# Altium footprint library DIOM - DIOdeMolded.PcbLib: 8 footprints
Each footprint in its own frame and in the unit in brackets; x right, y up, seen from the top. Pads: shape width x height; smd on the part's side, far side on the other; paste and mask are expansions set on the pad; w line width, h text height; cw(c..) or ccw(c..) is an arc to the next point about the centre after c.
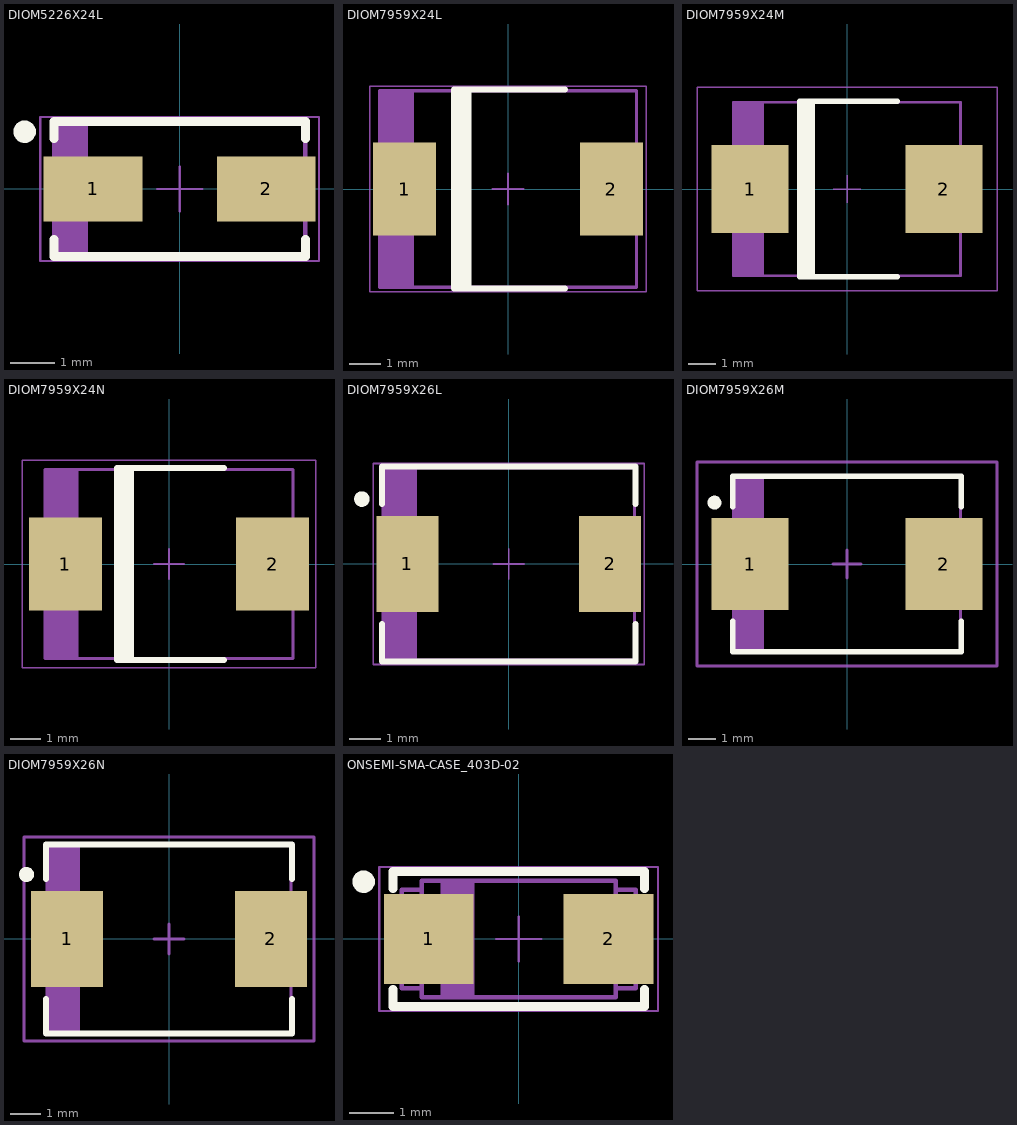
[diagram p0: the footprints below, top view; thin cyan lines are the x and y axes]

## DIOM5226X24L [mm] "Molded Diode, 2-Leads, Body 5.2x2.6mm, IPC High Density, Jedec DO-214AC, SMA"
height 2.41
pads (2):
  rect 2.2x1.45 smd: 1(-1.925,0) 2(1.925,0)
Top Overlay:
  circle w0.25: c-3.45,1.275 r0.125
  lines w0.2: -2.8,-1.125 -2.8,-1.5 2.8,-1.5 2.8,-1.125 ; -2.8,1.125 -2.8,1.5 2.8,1.5 2.8,1.125
TopBody:
  rectangle: -2.795,-1.46 -2.043,1.46
  lines w0.1: -2.795,-1.46 -2.795,1.46 2.795,1.46 2.795,-1.46 -2.795,-1.46
TopCourtyard:
  lines w0.05: -0.5,0 0,0 ; 0,-0.5 0,0 ; 0,0.5 0,0 ; 0.5,0 0,0 ; -3.1,-1.6 -3.1,1.6 3.1,1.6 3.1,-1.6 -3.1,-1.6
3D body: height 2.41, standoff 0, extent -2.795,-1.46 2.795,1.46

## DIOM7959X24L [mm] "Molded Diode, 2-Leads, Body 7.9x5.9mm, IPC High Density, Jedec DO-214AB, SMC"
height 2.41
pads (2):
  rect 2x2.95 smd: 1(-3.275,0) 2(3.275,0)
Top Overlay:
  rectangle: -1.7,-3.05 -1.15,3.05
  lines w0.2: 1.8,-3.15 -1.7,-3.15 -1.7,3.15 1.8,3.15
TopBody:
  rectangle: -4.065,-3.11 -2.972,3.11
  lines w0.1: -4.065,-3.11 -4.065,3.11 4.065,3.11 4.065,-3.11 -4.065,-3.11
TopCourtyard:
  lines w0.05: -0.5,0 0,0 ; 0,-0.5 0,0 ; 0,0.5 0,0 ; 0.5,0 0,0 ; -4.375,-3.25 -4.375,3.25 4.375,3.25 4.375,-3.25 -4.375,-3.25
3D body: height 2.41, standoff 0, extent -4.065,-3.11 4.065,3.11

## DIOM7959X24M [mm] "Molded Diode, 2-Leads, Body 7.9x5.9mm, IPC Low Density, Jedec DO-214AB, SMC"
height 2.41
pads (2):
  rect 2.75x3.15 smd: 1(-3.475,0) 2(3.475,0)
Top Overlay:
  rectangle: -1.7,-3.05 -1.15,3.05
  lines w0.2: 1.8,-3.15 -1.7,-3.15 -1.7,3.15 1.8,3.15
TopBody:
  rectangle: -4.065,-3.11 -2.972,3.11
  lines w0.1: -4.065,-3.11 -4.065,3.11 4.065,3.11 4.065,-3.11 -4.065,-3.11
TopCourtyard:
  lines w0.05: -0.5,0 0,0 ; 0,-0.5 0,0 ; 0,0.5 0,0 ; 0.5,0 0,0 ; -5.375,-3.65 -5.375,3.65 5.375,3.65 5.375,-3.65 -5.375,-3.65
3D body: height 2.41, standoff 0, extent -4.065,-3.11 4.065,3.11

## DIOM7959X24N [mm] "Molded Diode, 2-Leads, Body 7.9x5.9mm, IPC Medium Density, Jedec DO-214AB, SMC"
height 2.41
pads (2):
  rect 2.4x3.05 smd: 1(-3.4,0) 2(3.4,0)
Top Overlay:
  rectangle: -1.7,-3.05 -1.15,3.05
  lines w0.2: 1.8,-3.15 -1.7,-3.15 -1.7,3.15 1.8,3.15
TopBody:
  rectangle: -4.065,-3.11 -2.972,3.11
  lines w0.1: -4.065,-3.11 4.065,-3.11 4.065,3.11 -4.065,3.11 -4.065,-3.11
TopCourtyard:
  lines w0.05: -0.5,0 0,0 ; 0,-0.5 0,0 ; 0,0.5 0,0 ; 0.5,0 0,0 ; -4.825,-3.4 4.825,-3.4 4.825,3.4 -4.825,3.4 -4.825,-3.4
3D body: height 2.41, standoff 0, extent -4.065,-3.11 4.065,3.11

## DIOM7959X26L [mm] "Molded Diode, 2-Leads, Body 7.9x5.9mm, IPC High Density"
height 2.62
pads (2):
  rect 2x3.1 smd: 1(-3.275,0) 2(3.275,0)
Top Overlay:
  circle w0.25: c-4.75,2.1 r0.125
  lines w0.2: -4.1,-1.95 -4.1,-3.15 4.1,-3.15 4.1,-1.95 ; -4.1,1.95 -4.1,3.15 4.1,3.15 4.1,1.95
TopBody:
  rectangle: -4.065,-3.11 -2.972,3.11
  lines w0.1: -4.065,-3.11 -4.065,3.11 4.065,3.11 4.065,-3.11 -4.065,-3.11
TopCourtyard:
  lines w0.05: -0.5,0 0,0 ; 0,-0.5 0,0 ; 0,0.5 0,0 ; 0.5,0 0,0 ; -4.375,-3.25 -4.375,3.25 4.375,3.25 4.375,-3.25 -4.375,-3.25
3D body: height 2.62, standoff 0, extent -4.065,-3.11 4.065,3.11

## DIOM7959X26M [mm] "Molded Diode, 2-Leads, Body 7.9x5.9mm, IPC Low Density"
height 2.62
pads (2):
  rect 2.75x3.3 smd: 1(-3.475,0) 2(3.475,0)
Top Overlay:
  circle w0.25: c-4.75,2.2 r0.125
  lines w0.2: -4.1,-2.05 -4.1,-3.15 4.1,-3.15 4.1,-2.05 ; -4.1,2.05 -4.1,3.15 4.1,3.15 4.1,2.05
TopBody:
  rectangle: -4.065,-3.11 -2.972,3.11
  lines w0.1: -4.065,-3.11 4.065,-3.11 4.065,3.11 -4.065,3.11 -4.065,-3.11
TopCourtyard:
  lines w0.1: -0.5,0 0.5,0 ; 0,-0.5 0,0.5 ; -5.375,-3.65 5.375,-3.65 5.375,3.65 -5.375,3.65 -5.375,-3.65
3D body: height 2.62, standoff 0, extent -4.065,-3.11 4.065,3.11

## DIOM7959X26N [mm] "Molded Diode, 2-Leads, Body 7.9x5.9mm, IPC Medium Density"
height 2.62
pads (2):
  rect 2.4x3.2 smd: 1(-3.4,0) 2(3.4,0)
Top Overlay:
  circle w0.25: c-4.75,2.15 r0.125
  lines w0.2: -4.1,-2 -4.1,-3.15 4.1,-3.15 4.1,-2 ; -4.1,2 -4.1,3.15 4.1,3.15 4.1,2
TopBody:
  rectangle: -4.065,-3.11 -2.972,3.11
  lines w0.1: -4.065,-3.11 4.065,-3.11 4.065,3.11 -4.065,3.11 -4.065,-3.11
TopCourtyard:
  lines w0.1: -0.5,0 0.5,0 ; 0,-0.5 0,0.5 ; -4.825,-3.4 4.825,-3.4 4.825,3.4 -4.825,3.4 -4.825,-3.4
3D body: height 2.62, standoff 0, extent -4.065,-3.11 4.065,3.11

## ONSEMI-SMA-CASE_403D-02 [mm] "Molded Diode, 2-Leads, Body 4.3x2.6mm, IPC High Density, CASE 403D-02, SMA"
height 2.2
pads (2):
  rect 2x2 smd: 1(-2,0) 2(2,0)
Top Overlay:
  circle w0.25: c-3.45,1.275 r0.125
  lines w0.2: -2.8,-1.125 -2.8,-1.5 2.8,-1.5 2.8,-1.125 ; -2.8,1.125 -2.8,1.5 2.8,1.5 2.8,1.125
TopBody:
  rectangle: -1.737,-1.3 -0.986,1.3
  lines w0.1: -2.16,-1.1 -2.604,-1.1 -2.604,1.1 -2.16,1.1 -2.16,1.3 ; 2.16,-1.1 2.604,-1.1 2.604,1.1 2.16,1.1 ; -2.16,1.3 -2.16,-1.3 2.16,-1.3 2.16,1.3 -2.16,1.3
TopCourtyard:
  lines w0.05: -0.5,0 0,0 ; 0,-0.5 0,0 ; 0,0.5 0,0 ; 0.5,0 0,0 ; -3.1,-1.6 3.1,-1.6 3.1,1.6 -3.1,1.6 -3.1,-1.6
3D body: height 1.4, standoff 0, extent -2.604,-1.1 0,1.1
3D body: height 2.1, standoff 0, extent -2.16,-1.3 2.16,1.3
3D body: height 1.4, standoff 0, extent 0,-1.1 2.604,1.1
3D body: height 2.1, standoff 2.09, extent -1.737,-1.3 -1.462,1.3